# Altium schematic symbol library SPE_router_lib.SchLib: 24 symbols
Pins are listed as number, name and electrical type; pins without a type are passive.

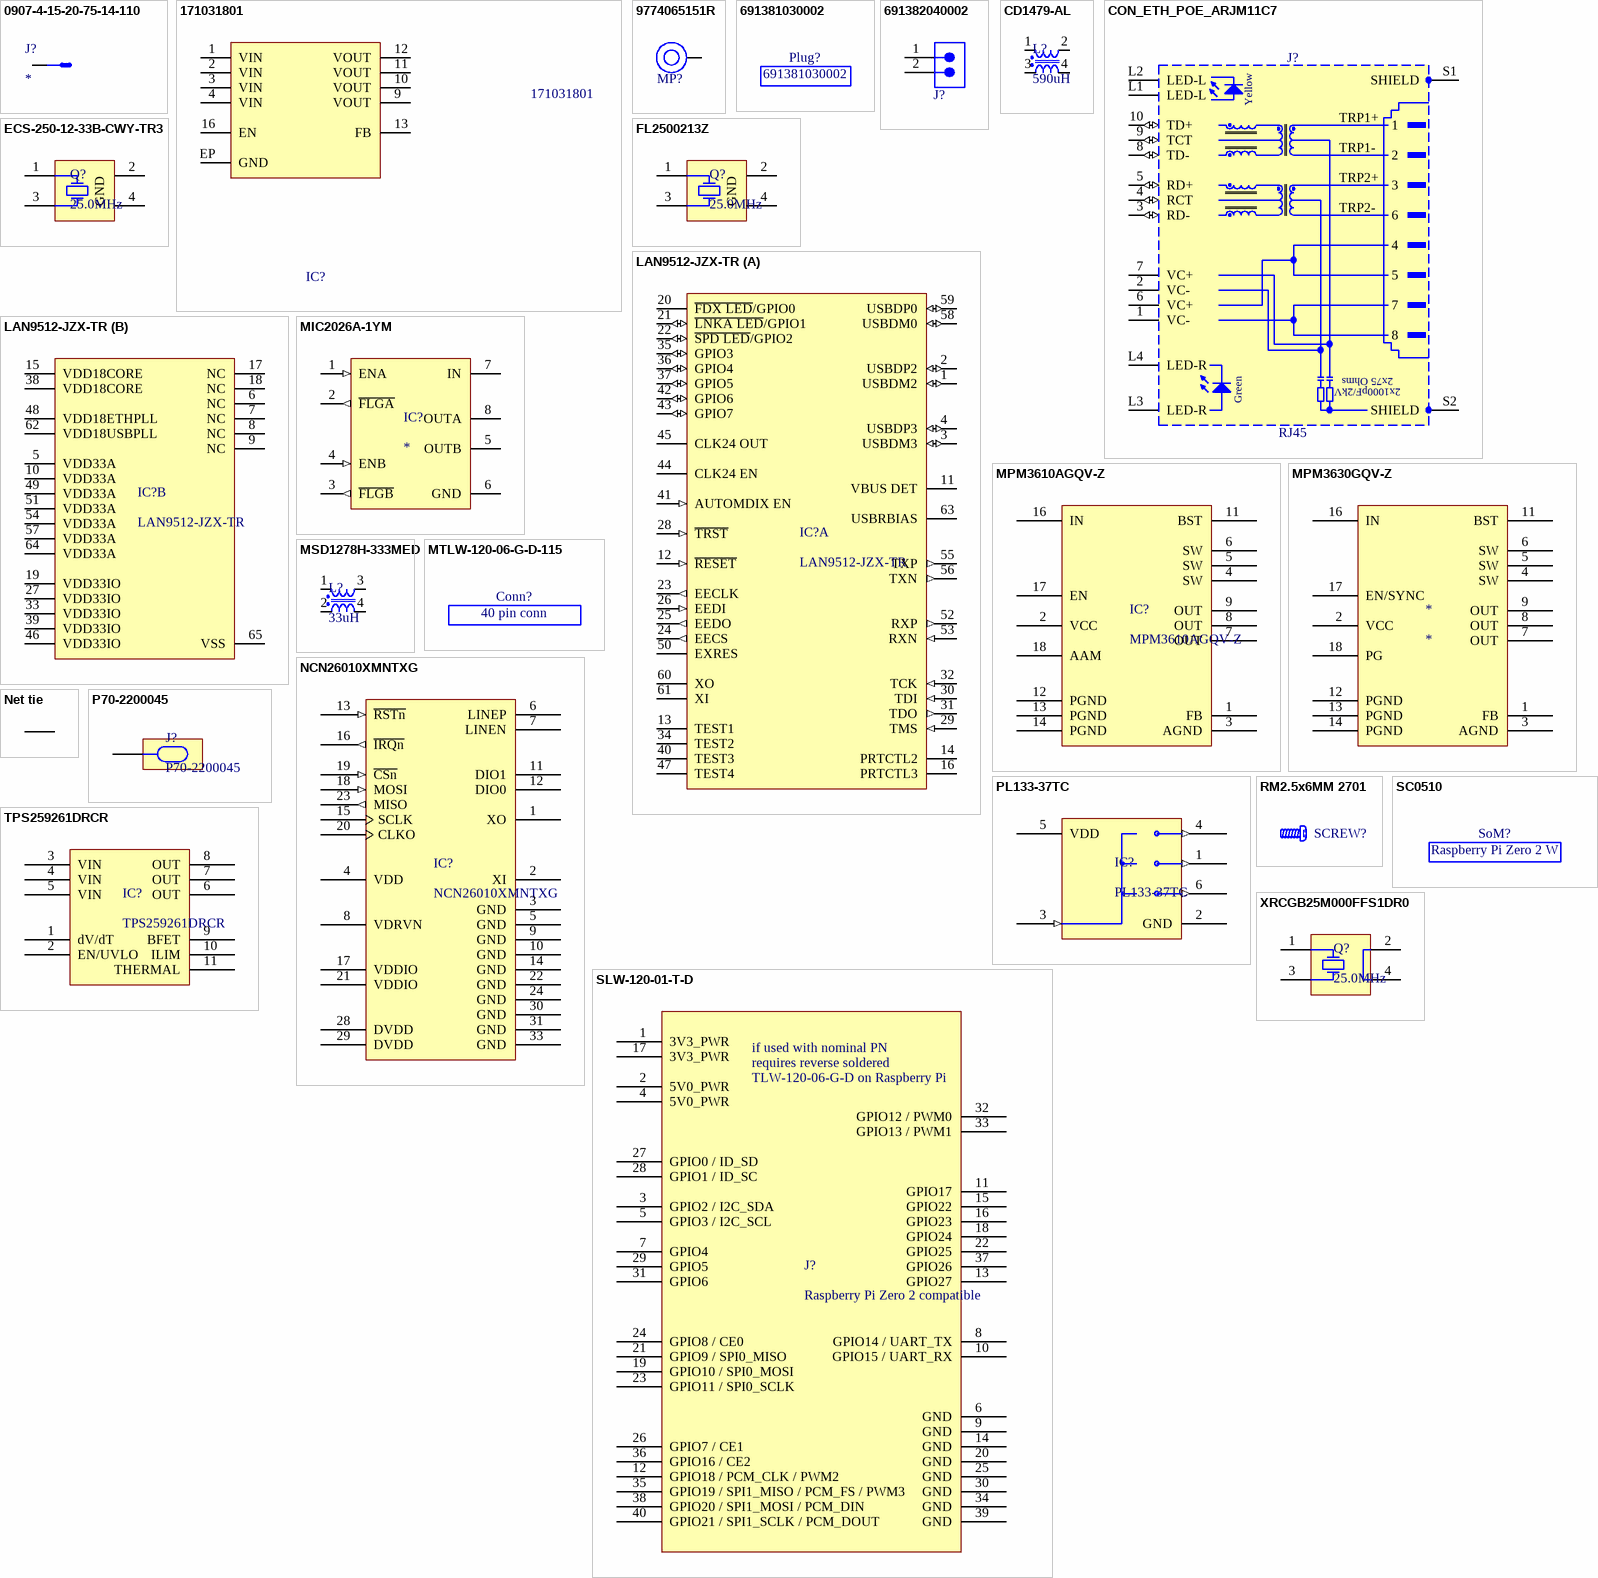
[diagram p0: symbols 0907-4-15-20-75-14-110 to XRCGB25M000FFS1DR0]

## 0907-4-15-20-75-14-110
designator J?
Conn, Test, Spring Terminal, Plug, Spring Loaded, Pnl Mnt, SMT Term, 1 Cont, Insulated; Manufacturer: Mill-Max; Manufacturer Part Number: 0907-4-15-20-75-14-110; Body Material: Brass; Current Rating: 2A; Number of Contacts: 1; Supplier 1: Allied Electronics; RoHS: Yes; Category: Uncategorized; Mounting Technology: Panel; Case/Package: SMD/SMT; Contact Material: Brass; Contact Plating: Gold; Number of Positions: 1; Number of Rows: 1; Termination: SMD/SMT; Length: 0.335inch; Height: 0.335inch; Reach SVHC Compliant: No; Lead Free: Lead Free; ComponentLink1URL: https://datasheet.ciiva.com/5160/015n-222786-5160785.pdf?src-supplier=Mouser; ComponentLink1Description: https://datasheet.ciiva.com/5160/015n-222786-5160785.pdf?src-supplier=Mouser; Supplier Part Number 1: 70206251
footprint 0907-4-15-20-75-14-11-0
pins: 1 (io)

## 171031801
designator IC?
WPME-VDLM Variable Step Down LGA Module, SMT, LGA-16EP, 4-18Vin, 0.8-17Vout, 3Aout; Manufacturer: Wurth Elektronik; Input Voltage Min: 4V; Input Voltage Max: 18V; Output Current: 3A; Output Voltage Min: 0.8V; Output Voltage Max: 17V; Manufacturer Part Number: 171031801; Category: Step Down Converter; Match Code: WPME-VDLM; ComponentLink1Description: Website Link; ComponentLink1URL: https://www.we-online.com/redexpert/article/171031801?ad; ComponentLink2Description: Datasheet Link; ComponentLink2URL: https://www.we-online.com/redexpert/spec/171031801?ad; Mount: Surface Mount; Operating Temperature Max: 125°C; Operating Temperature Min: -40°C; Packaging: Tape and Reel; Case/Size Code: LGA-16EP; Length: 9mm; Width: 9mm; Height: 2.96mm
footprint WPME-VDLM_LGA-16EP_L9W9H2.96
pins: 1 VIN, 2 VIN, 3 VIN, 4 VIN, 9 VOUT, 10 VOUT, 11 VOUT, 12 VOUT, 13 FB, 16 EN, EP GND

## 9774065151R
designator MP?, comment M2.5 x 6.5mm  (value not drawn)
WA-SMSI SMT Steel Spacer with internal Thread, OD 5.1mm, M2.5 x 6.5mm; Manufacturer Part Number: 9774065151R; Manufacturer: Wurth Elektronik; Inside Diameter: 3.5mm; Surface: Tin; ComponentLink1Description: Website Link; ComponentLink1URL: https://www.we-online.com/redexpert/article/9774065151R?ad; ComponentLink2Description: Datasheet Link; ComponentLink2URL: https://www.we-online.com/redexpert/spec/9774065151R?ad; Category: SMT Spacers; Match Code: WA-SMSI; Mount: Surface Mount; Operating Temperature Max: 150°C; Operating Temperature Min: -55°C; Packaging: Tape and Reel; Height: 6.5mm; Material: Steel; Outside Diameter: 5.1mm; Thread Size: M2.5
footprint 9774065151 (SMT Steel Spacer with internal Thread M2.5, height 6.5mm)
pins: 1

## 691381030002
designator Plug?
Wurth Elektronik 691381030002; Manufacturer: Wurth Elektronik; Manufacturer Part Number: 691381030002

## 691382040002
designator J?  (value not drawn)
WR-TBL Series 382 Horizontal PCB Header with Flanges, THT, pitch 2.5mm, 2p; Manufacturer: Wurth Elektronik; Modularity: No; Rated Current: 12A; Working Voltage: 300V; ComponentLink1Description: Website Link; ComponentLink1URL: https://www.we-online.com/redexpert/article/691382040002?ad; ComponentLink2Description: Datasheet Link; ComponentLink2URL: https://www.we-online.com/redexpert/spec/691382040002?ad; Manufacturer Part Number: 691382040002; Category: Terminal Blocks; Match Code: WR-TBL; Mount: Through Hole; Operating Temperature Max: 105°C; Operating Temperature Min: -40°C; Packaging: Box; Application: Pluggable; Number of Pins: 2; Number of Rows: 1; Orientation: Horizontal; Pitch: 2.5mm
footprint 691382040002
pins: 1, 2

## CD1479-AL
designator L?, comment 590uH
Common mode choke, toroid, power line, ferrite core, SMT, RoHS; Manufacturer: Coilcraft; Manufacturer Part Number: CD1479-AL; Supplier 1: Farnell; RoHS: Yes; Category: Inductors; Stock 1: 123; RoHS Compliant: No; Supplier Part Number 1: 3225548
footprint CD1479-AL (Common Mode Choke)
pins: 1, 2, 3, 4

## CON_ETH_POE_ARJM11C7
designator J?, comment RJ45
MagJack 10/100BaseT, PoE+, 1X1, OG/Y, -40 to 85*C, Tab Up, RoHS; Part Number: ARJM11C7-114-BA-EW2; Part Description: 1 Port, Orange Green/Yellow LEDs, RJ45 10/100BaseT, PoE, Ethernet MagJack® Connector Module; Manufacturer: Abracon; PressFit: No; Component Kind: Standard; Component Type: Standard; Footprint: ABRACON_ARJM11C7-114-BA-EW2; Pin Count: 18; Family: RJ45; Mounted: Yes; Socket: No; SMD: No; Sense: No; Status: None; Manufacturer Part Number: ARJM11C7-114-BA-EW2; ComponentHeight: 13.61mm; HelpURL: \\cern.ch\dfs\Applications\Altium\Datasheets\BELFUSE_0826-1X1T-GJ-F.pdf; Author: GK; CreateDate: 05.11.2012; LatestRevisionDate: 05.11.2012
footprint ABRACON_ARJM11C7-114-BA-EW2
pins: 1 VC-, 2 VC-, 3 RD- (io), 4 RCT (io), 5 RD+ (io), 6 VC+, 7 VC+, 8 TD- (io), 9 TCT (io), 10 TD+ (io), L1 LED-L, L2 LED-L, L3 LED-R, L4 LED-R, S1 SHIELD (power), S2 SHIELD (power)
text: Yellow; TRP1+; TRP1-; TRP2+; TRP2-; 2x75 Ohms; Green; 2x1000pF/2kV

## ECS-250-12-33B-CWY-TR3
designator Q?, comment 25.0MHz
Crystal 25 Mhz 12PF SMD; Manufacturer: ECS International; Manufacturer Part Number: ECS-250-12-33B-CWY-TR3; Supplier 1: Digikey; RoHS: No; Category: Uncategorized; Stock 1: 1965; Pricing 1: 1=0,45, 10=0,376, 50=0,3386, 100=0,301, 500=0,28594, 1000=0,24078 (USD); Supplier Part Number 1: 50-ECS-250-12-33B-CWY-TR3CT-ND; Value: 25.0MHz
footprint XTAL_KYOCERA_CX3225SB (SMD Crystal Kyocera, 4 Pin, 3.2mm L X 2.5mm W X 0.6mm H)
pins: 1 X, 2 GND (power), 3 X, 4 GND (power)

## FL2500213Z
designator Q?, comment 25.0MHz
Crystal 25MHz ±20ppm (Tol) ±20ppm (Stability) 20pF FUND 30Ohm 4-Pin SMD T/R; Manufacturer: Diodes; Manufacturer Part Number: FL2500213Z; ESR (Equivalent Series Resistance): 30R; Supplier 1: Digikey; RoHS: Yes; Category: Aluminum Electrolytic Capacitors; Stock 1: 1924; Pricing 1: 1=0,64, 10=0,53, 50=0,4772, 100=0,4242, 500=0,403, 1000=0,33936 (USD); Mounting Technology: Surface Mount; Case/Package: SMD/SMT; Min Operating Temperature: -40°C; Max Operating Temperature: 85°C; Packaging: Cut Tape; Frequency: 25MHz; Frequency Stability: 20ppm; Frequency Tolerance: 20ppm; Load Capacitance: 20pF; Series: SaRonix-eCera™ FL; RoHS Compliant: Yes; ComponentLink1URL: https://media.digikey.com/pdf/Data%20Sheets/Pericom%20PDFs/FL2500213Z_Ver.F.pdf?src-supplier=Digikey; ComponentLink1Description: https://media.digikey.com/pdf/Data%20Sheets/Pericom%20PDFs/FL2500213Z_Ver.F.pdf?src-supplier=Digikey; Supplier Part Number 1: FL2500213ZCT-ND; Value: 25.0MHz
footprint XTAL_KYOCERA_CX3225SB (SMD Crystal Kyocera, 4 Pin, 3.2mm L X 2.5mm W X 0.6mm H)
pins: 1 X, 2 GND (power), 3 X, 4 GND (power)

## LAN9512-JZX-TR
designator IC?
USB 2.0 to 10/100 Ethernet Controllers with 2-port USB2.0 Hub, 64 QFN 9x9x0.9mm; Manufacturer: Microchip; Operating Supply Voltage: 3.3V; Data Rate: 480Mbps; Operating Supply Current: 231mA; Max Power Dissipation: 763mW; Number of Ports: 2; Supplier 1: Mouser; Manufacturer Part Number: LAN9512-JZX-TR; RoHS: Yes; Category: Ethernet Interface ICs; Stock 1: 5518; Pricing 1: 1=6,53000, 10=6,53000, 50=5,95000, 100=5,95000, 1000=5,95000, 10000=5,95000 (USD); Mount: Surface Mount; Case/Package: QFN; Number of Pins: 64; Min Operating Temperature: 0°C; Max Operating Temperature: 70°C; Packaging: Tape and Reel; Package Quantity: 3000; Interface: USB; Radiation Hardening: No; RoHS Compliant: Yes; ComponentLink1URL: https://datasheet.ciiva.com/29644/9512-29644800.pdf?src-supplier=Digi-Key; ComponentLink1Description: https://datasheet.ciiva.com/29644/9512-29644800.pdf?src-supplier=Digi-Key; ComponentLink2URL: https://datasheet.ciiva.com/29897/9512-29897990.pdf?src-supplier=Avnet; ComponentLink2Description: https://datasheet.ciiva.com/29897/9512-29897990.pdf?src-supplier=Avnet; Supplier Part Number 1: 579-LAN9512-JZX-TR
footprint FP-LAN9512-JZX-TR-IPC_B
part A pins: 1 USBDM2 (io), 2 USBDP2 (io), 3 USBDM3 (io), 4 USBDP3 (io), 11 VBUS DET (power), 12 ~{RESET} (in), 13 TEST1, 14 PRTCTL2, 16 PRTCTL3, 20 ~{FDX LED}/GPIO0, 21 ~{LNKA LED}/GPIO1 (io), 22 ~{SPD LED}/GPIO2 (io), 23 EECLK (out), 24 EECS (out), 25 EEDO (out), 26 EEDI (in), 28 ~{TRST} (in), 29 TMS (in), 30 TDI (in), 31 TDO (out), 32 TCK (in), 34 TEST2, 35 GPIO3 (io), 36 GPIO4 (io), 37 GPIO5 (io), 40 TEST3, 41 AUTOMDIX EN (in), 42 GPIO6 (io), 43 GPIO7 (io), 44 CLK24 EN, 45 CLK24 OUT, 47 TEST4, 50 EXRES, 52 RXP (out), 53 RXN (in), 55 TXP (out), 56 TXN (out), 58 USBDM0 (io), 59 USBDP0 (io), 60 XO, 61 XI, 63 USBRBIAS
part B pins: 5 VDD33A (power), 6 NC, 7 NC, 8 NC, 9 NC, 10 VDD33A (power), 15 VDD18CORE (power), 17 NC, 18 NC, 19 VDD33IO (power), 27 VDD33IO (power), 33 VDD33IO (power), 38 VDD18CORE (power), 39 VDD33IO (power), 46 VDD33IO (power), 48 VDD18ETHPLL (power), 49 VDD33A (power), 51 VDD33A (power), 54 VDD33A (power), 57 VDD33A (power), 62 VDD18USBPLL (power), 64 VDD33A (power), 65 VSS (power)

## MIC2026A-1YM
designator IC?
MIC2026 Series 5.5 V 140 mOhm Dual-Channel Power Distribution Switch - SOIC-8; Manufacturer: Microchip; Manufacturer Part Number: MIC2026A-1YM; Number of Outputs: 2; Interface: On/Off; Max Output Current: 1.25A; Output Configuration: High Side; Fault Protection: Over Temperature; On-State Resistance: 100mR; Min Supply Voltage: 2.7V; Max Supply Voltage: 5.5V; Supply Current: 5uA; Supplier 1: Mouser; RoHS: Yes; Category: Hot Swap Controllers; Stock 1: 1934; Pricing 1: 1=1,04000, 10=1,04000, 50=0,87000, 100=0,78400, 1000=0,78400, 10000=0,78400 (USD); Mount: Surface Mount; Case/Package: SOIC; Number of Pins: 8; Min Operating Temperature: -40°C; Max Operating Temperature: 85°C; Packaging: Rail/Tube; Series: -; Package Quantity: 95; Number of Switches: 2; Voltage: 5.5V; Current: 1.25A; Length: 4.93mm; Width: 3.94mm; Height: 1.48mm; Radiation Hardening: No; Lead Free: Lead Free; Reach SVHC Compliant: Yes; ComponentLink1URL: https://datasheet.ciiva.com/23784/1692656-23784050.pdf?src-supplier=Newark; ComponentLink1Description: https://datasheet.ciiva.com/23784/1692656-23784050.pdf?src-supplier=Newark; ComponentLink2URL: https://datasheet.ciiva.com/22629/1692656-22629131.pdf?src-supplier=Element14; ComponentLink2Description: https://datasheet.ciiva.com/22629/1692656-22629131.pdf?src-supplier=Element14; Supplier Part Number 1: 998-MIC2026A-1YM
footprint SOIC127P600X173-8N (SOIC, 8-Leads, Body 4,93x3,90mm, Pitch 1,27mm, IPC Medium Density)
pins: 1 ENA (in), 2 ~{FLGA} (out), 3 ~{FLGB} (out), 4 ENB (in), 5 OUTB (power), 6 GND (power), 7 IN (power), 8 OUTA (power)

## MPM3610AGQV-Z
designator IC?
MPM3610A Series 21 V 1.2 A Adj. SMT Synchronous Step-Down Converter - QFN-20; Manufacturer: Monolithic Power Systems; Number of Outputs: 1; Min Input Voltage: 4.5V; Max Input Voltage: 21V; Max Output Current: 600mA; Supplier 1: Digi-Key; Manufacturer Part Number: MPM3610AGQV-Z; RoHS: Yes; Category: Board Mount Modules; Stock 1: 2500; Pricing 1: 1=2,85000, 10=2,55600, 25=2,41160, 100=2,05460, 250=1,92920, 500=1,68804, 1000=1,39867 (USD); Mount: Surface Mount; Case/Package: QFN; Min Operating Temperature: -40°C; Max Operating Temperature: 125°C; Packaging: Tape and Reel; Voltage - Output 1: 21V; Features: UVLO,OCP,OTP; Length: 0.2inch; Width: 0.12inch; Height: 0.06inch; Lead Free: Lead Free; RoHS Compliant: Yes; ComponentLink1URL: http://www.monolithicpower.com/DesktopModules/DocumentManage/API/Document/getDocument?id=3967&src-supplier=Digi-Key; ComponentLink1Description: http://www.monolithicpower.com/DesktopModules/DocumentManage/API/Document/getDocument?id=3967&src-supplier=Digi-Key; Supplier Part Number 1: 1589-1762-1-ND
footprint MPM3610A (MPM3610A, Body 3,00x5,00mm, Pitch 0,50mm, IPC Medium Density)
pins: 1 FB, 2 VCC, 3 AGND, 4 SW, 5 SW, 6 SW, 7 OUT, 8 OUT, 9 OUT, 11 BST, 12 PGND, 13 PGND, 14 PGND, 16 IN, 17 EN, 18 AAM

## MPM3630GQV-Z
designator *
18V/3A DC/DC Module Synchronous Step-Down Regulator with Integrated Inductor; Manufacturer: Monolithic Power Systems; Manufacturer Part Number: MPM3630GQV-Z; Supplier 1: Farnell; RoHS: Yes; Category: Board Mount Modules; Stock 1: 4233; Case/Package: QFN; Pins: 18; Series: *; RoHS Compliant: Yes; ComponentLink1URL: http://www.monolithicpower.com/pub/media/document/MPM3630_r1.0.pdf?src-supplier=Digikey; ComponentLink1Description: http://www.monolithicpower.com/pub/media/document/MPM3630_r1.0.pdf?src-supplier=Digikey; ComponentLink2URL: https://www.monolithicpower.com/pub/media/document/MPM3630_r1.0.pdf?src-supplier=Digikey; ComponentLink2Description: https://www.monolithicpower.com/pub/media/document/MPM3630_r1.0.pdf?src-supplier=Digikey; ComponentLink3URL: https://datasheet.octopart.com/MPM3630GQV-Z-Monolithic-Power-Systems-datasheet-140259359.pdf?src-supplier=Newark; ComponentLink3Description: https://datasheet.octopart.com/MPM3630GQV-Z-Monolithic-Power-Systems-datasheet-140259359.pdf?src-supplier=Newark; ComponentLink4URL: https://datasheet.octopart.com/MPM3630GQV-Z-Monolithic-Power-Systems-datasheet-81324618.pdf?src-supplier=Future+Electronics; ComponentLink4Description: https://datasheet.octopart.com/MPM3630GQV-Z-Monolithic-Power-Systems-datasheet-81324618.pdf?src-supplier=Future+Electronics; ComponentLink5URL: https://www.monolithicpower.com/DesktopModules/DocumentManage/API/Document/GetDocument?id=4863&src-supplier=Digikey; ComponentLink5Description: https://www.monolithicpower.com/DesktopModules/DocumentManage/API/Document/GetDocument?id=4863&src-supplier=Digikey; ComponentLink6URL: https://datasheet.octopart.com/MPM3630GQV-Z-Monolithic-Power-Systems-datasheet-155982336.pdf?src-supplier=Monolithic+Power+Systems; ComponentLink6Description: https://datasheet.octopart.com/MPM3630GQV-Z-Monolithic-Power-Systems-datasheet-155982336.pdf?src-supplier=Monolithic+Power+Systems; Supplier Part Number 1: 3358182
footprint MPM3610A (MPM3610A, Body 3,00x5,00mm, Pitch 0,50mm, IPC Medium Density)
pins: 1 FB, 2 VCC, 3 AGND, 4 SW, 5 SW, 6 SW, 7 OUT, 8 OUT, 9 OUT, 11 BST, 12 PGND, 13 PGND, 14 PGND, 16 IN, 17 EN/SYNC, 18 PG

## MSD1278H-333MED
designator L?, comment 33uH
coupled inductor, ferrite core, SMT, RoHS; Manufacturer: Coilcraft; Manufacturer Part Number: MSD1278H-333MED; RoHS: Yes; Category: Inductors; Stock 1: 123; RoHS Compliant: No
footprint MSD1278H-333MED (Coupled Inductor)
pins: 1, 2, 3, 4

## MTLW-120-06-G-D-115
designator Conn?, comment 40 pin conn
Samtec MTLW-120-06-G-D-115; Manufacturer: Samtec; Manufacturer Part Number: MTLW-120-06-G-D-115

## NCN26010XMNTXG
designator IC?
Ethernet Controller, 10 Mb/s, Single-Pair, MAC + PHY, 802.3cg, 10BASE−T1S Compliant; Manufacturer: ON Semiconductor; Supplier 1: Arrow Electronics; Manufacturer Part Number: NCN26010XMNTXG; RoHS: No; Stock 1: 369; Pricing 1: 1=7,29220, 10=6,57460, 25=6,24800, 100=5,59360, 250=5,34180 (USD); Supplier Part Number 1: NCN26010XMNTXG
footprint QFN40P400X400X100_HS-33N (QFN, 32-Leads, Body 4,00x4,00mm, Pitch 0,40mm, Thermal Pad 2,80x2,80mm, IPC Medium Density)
pins: 1 XO, 2 XI, 3 GND (power), 4 VDD (power), 5 GND (power), 6 LINEP, 7 LINEN, 8 VDRVN (power), 9 GND (power), 10 GND (power), 11 DIO1, 12 DIO0, 13 ~{RSTn} (in), 14 GND (power), 15 SCLK, 16 ~{IRQn} (out), 17 VDDIO (power), 18 MOSI (in), 19 ~{CSn} (in), 20 CLKO, 21 VDDIO (power), 22 GND (power), 23 MISO (out), 24 GND (power), 28 DVDD (power), 29 DVDD (power), 30 GND (power), 31 GND (power), 33 GND (power)

## Net tie
designator NT?  (value not drawn)
footprint NETTIE
pins: 1, 2

## P70-2200045
designator J?
Contact PIN Solder ST SMD Bulk/Loose; Manufacturer: Harwin; Plating: Gold; Current Rating: 2A; Mating Cycles: 10000; Supplier 1: Farnell; Manufacturer Part Number: P70-2200045; RoHS: Yes; Category: Connectors; Stock 1: 5007; Mount: Through Hole; Material: Brass; Contact Material: Brass; Contact Plating: Gold; Min Operating Temperature: -40°C; Max Operating Temperature: 85°C; Series: -; Packaging: Bulk; Contact Type: Sleeve & Plunger; Length: 8.2mm; Reach SVHC Compliant: Yes; RoHS Compliant: Yes; ComponentLink1URL: http://www.farnell.com/datasheets/2151573.pdf?src-supplier=Farnell; ComponentLink1Description: http://www.farnell.com/datasheets/2151573.pdf?src-supplier=Farnell; ComponentLink2URL: https://cdn.harwin.com/pdfs/P70-220.pdf?src-supplier=Digi-Key; ComponentLink2Description: https://cdn.harwin.com/pdfs/P70-220.pdf?src-supplier=Digi-Key; ComponentLink3URL: http://www.farnell.com/datasheets/2151573.pdf?src-supplier=Element14; ComponentLink3Description: http://www.farnell.com/datasheets/2151573.pdf?src-supplier=Element14; ComponentLink4URL: http://www.farnell.com/datasheets/2151573.pdf?src-supplier=Newark; ComponentLink4Description: http://www.farnell.com/datasheets/2151573.pdf?src-supplier=Newark; Supplier Part Number 1: 2664890
pins: 1

## PL133-37TC
designator IC?
IC CLK BUFFER 1:3 150MHZ 6SOT23; Manufacturer: Microchip; Number of Circuits: 1; Input: LVCMOS; Number of Outputs: 3; Max Supply Voltage: 3.63V; Min Supply Voltage: 1.62V; Nominal Supply Current: 1.2mA; Supplier 1: Mouser; Manufacturer Part Number: PL133-37TC; RoHS: Yes; Category: Clock Buffers, Drivers; Stock 1: 2317; Pricing 1: 1=0,73000, 10=0,72100, 50=0,59400, 100=0,54000, 1000=0,54000, 10000=0,54000 (USD); Mount: Surface Mount; Case/Package: SOT-23-6; Min Operating Temperature: 0°C; Max Operating Temperature: 70°C; Packaging: Rail/Tube; Package Quantity: 20; Series: -; Max Frequency: 150MHz; Supply Current: 1.2mA; RoHS Compliant: Yes; Lead Free: Lead Free; ComponentLink1URL: http://www.mouser.com/ds/2/268/PL133-37-777075.pdf?src-supplier=Mouser; ComponentLink1Description: http://www.mouser.com/ds/2/268/PL133-37-777075.pdf?src-supplier=Mouser; ComponentLink2URL: http://www.microchip.com/mymicrochip/filehandler.aspx?ddocname=en580976&src-supplier=Digi-Key; ComponentLink2Description: http://www.microchip.com/mymicrochip/filehandler.aspx?ddocname=en580976&src-supplier=Digi-Key; ComponentLink3URL: https://www.verical.com/server-webapp/html/getDatasheet?partID=752329&src-supplier=Verical; ComponentLink3Description: https://www.verical.com/server-webapp/html/getDatasheet?partID=752329&src-supplier=Verical; Supplier Part Number 1: 998-PL133-37TC
footprint SOT95P280X130-6N (SOT23, 6-Leads, Body 2,90x2,80mm, Pitch 0,95mm, IPC Medium Density)
pins: 1 CLK1 (out), 2 GND (power), 3 FIN (in), 4 CLK0 (out), 5 VDD (power), 6 CLK2 (out)

## RM2.5x6MM 2701
designator SCREW?  (value not drawn)  (mechanical)
Screw; Manufacturer: APM HEXSEAL; Manufacturer Part Number: RM2.5x6MM 2701

## SC0510
designator SoM?, comment Raspberry Pi Zero 2 W
Manufacturer Part Number: SC0510; Manufacturer: Raspberry Pi

## SLW-120-01-T-D
designator J?, comment Raspberry Pi Zero 2 compatible
Conn Socket Strip SKT 40 POS 2.54mm Solder ST Top Entry Thru-Hole Bulk; Manufacturer: Samtec; Manufacturer Part Number: SLW-120-01-T-D; Max Current Rating: 7.1A; Contact Resistance: 10mR; Max Voltage Rating (AC): 50V; Connector Type: Receptacle; Number of Positions: 40; Voltage Rating (AC): 550V; Row Spacing: 0.1inch; Supplier 1: Farnell; RoHS: Yes; Category: Connectors; Stock 1: 10; Mount: Through Hole; Contact Plating: Tin; Contact Material: Bronze; Color: Black; Housing Color: Black; Housing Material: Polyester; Min Operating Temperature: -55°C; Max Operating Temperature: 105°C; Number of Rows: 2; Package Quantity: 1; Packaging: Bulk; Termination: Solder; Gender: Receptacle; Number of Contacts: 40; Orientation: Straight; Series: SLW; Length: 50.8mm; Width: 4.95mm; Pitch: 2.54mm; Depth: 4.95mm; Radiation Hardening: No; Reach SVHC Compliant: Yes; Lead Free: Lead Free; RoHS Compliant: Yes; ComponentLink1URL: https://datasheet.ciiva.com/413/slw-mkt-413874.pdf?src-supplier=Digi-Key; ComponentLink1Description: https://datasheet.ciiva.com/413/slw-mkt-413874.pdf?src-supplier=Digi-Key; Supplier Part Number 1: 2856554
footprint SLW-120-01-T-D (for Raspberry Pi Zero 2)
pins: 1 3V3_PWR, 2 5V0_PWR, 3 GPIO2 / I2C_SDA, 4 5V0_PWR, 5 GPIO3 / I2C_SCL, 6 GND, 7 GPIO4, 8 GPIO14 / UART_TX, 9 GND, 10 GPIO15 / UART_RX, 11 GPIO17, 12 GPIO18 / PCM_CLK / PWM2, 13 GPIO27, 14 GND, 15 GPIO22, 16 GPIO23, 17 3V3_PWR, 18 GPIO24, 19 GPIO10 / SPI0_MOSI, 20 GND, 21 GPIO9 / SPI0_MISO, 22 GPIO25, 23 GPIO11 / SPI0_SCLK, 24 GPIO8 / CE0, 25 GND, 26 GPIO7 / CE1, 27 GPIO0 / ID_SD, 28 GPIO1 / ID_SC, 29 GPIO5, 30 GND, 31 GPIO6, 32 GPIO12 / PWM0, 33 GPIO13 / PWM1, 34 GND, 35 GPIO19 / SPI1_MISO / PCM_FS / PWM3, 36 GPIO16 / CE2, 37 GPIO26, 38 GPIO20 / SPI1_MOSI / PCM_DIN, 39 GND, 40 GPIO21 / SPI1_SCLK / PCM_DOUT
text: if used with nominal PN; requires reverse soldered; TLW-120-06-G-D on Raspberry Pi

## TPS259261DRCR
designator IC?
Hot Swap Controller 13.8V Positive Voltage 10-Pin VSON EP T/R; Manufacturer: Texas Instruments; Number of Channels: 1; Min Supply Voltage: 4.5V; Operating Supply Voltage: 12V; Max Output Current: 5A; Operating Supply Current: 470uA; Max Supply Current: 550uA; Supplier 1: Mouser; Manufacturer Part Number: TPS259261DRCR; RoHS: Yes; Category: Power Management ICs; Stock 1: 16119; Pricing 1: 1=1,45000, 10=1,31000, 50=1,25000, 100=1,02000, 1000=0,66500, 10000=0,64300 (USD); Mount: Surface Mount; Number of Pins: 10; Contact Plating: Gold; Min Operating Temperature: -40°C; Max Operating Temperature: 85°C; Max Supply Voltage: 13.8V; Packaging: Tape and Reel; Features: Auto Retry,Thermal Limit,OVP; Lead Free: Lead Free; RoHS Compliant: Yes; ComponentLink1URL: http://www.ti.com/lit/ds/symlink/tps25925.pdf?src-supplier=Digi-Key; ComponentLink1Description: http://www.ti.com/lit/ds/symlink/tps25925.pdf?src-supplier=Digi-Key; ComponentLink2URL: http://www.ti.com/general/docs/suppproductinfo.tsp?distId=10&amp;gotoUrl=http%3A%2F%2Fwww.ti.com%2Flit%2Fgpn%2Ftps25925&src-supplier=Digi-Key; ComponentLink2Description: http://www.ti.com/general/docs/suppproductinfo.tsp?distId=10&amp;gotoUrl=http%3A%2F%2Fwww.ti.com%2Flit%2Fgpn%2Ftps25925&src-supplier=Digi-Key; ComponentLink3URL: http://www.ti.com/lit/gpn/tps25926?src-supplier=Mouser; ComponentLink3Description: http://www.ti.com/lit/gpn/tps25926?src-supplier=Mouser; ComponentLink4URL: http://www.ti.com/general/docs/lit/getliterature.tsp?genericPartNumber=TPS25925&&fileType=pdf&src-supplier=Avnet; ComponentLink4Description: http://www.ti.com/general/docs/lit/getliterature.tsp?genericPartNumber=TPS25925&&fileType=pdf&src-supplier=Avnet; Supplier Part Number 1: 595-TPS259261DRCR
footprint VSON50P300X100_HS-11N (VSON, 10-Leads, Body 3,00x3,00mm, Pitch 0,50mm, Thermal Pad 1,60x0,89mm, IPC Medium Density)
pins: 1 dV/dT, 2 EN/UVLO, 3 VIN, 4 VIN, 5 VIN, 6 OUT, 7 OUT, 8 OUT, 9 BFET, 10 ILIM, 11 THERMAL

## XRCGB25M000FFS1DR0
designator Q?, comment 25.0MHz
Crystal 2.0x1.6mm 25.0MHz Crystal Unit +/-8ppm Initial tolerance; Manufacturer: Murata; Manufacturer Part Number: XRCGB25M000FFS1DR0; Load Capacitance: 12pF; Frequency: 25.0MHz; Value: 25.0MHz
pins: 1 X, 2 NC, 3 X, 4 NC